# EAGLE library part LM6152 (library QuantumOptics)
LM6152, National Semi opamp, dual, single supply, RRIO, middle of the road.
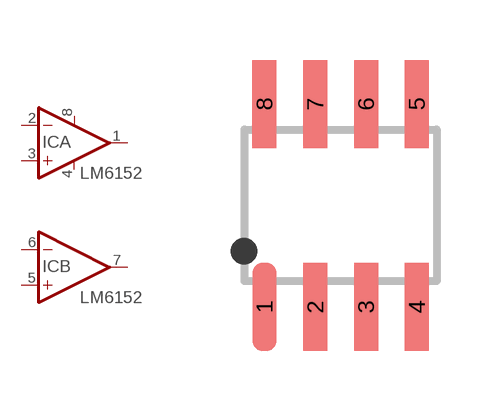
[diagram p21: symbol with the pads of SOIC-8; footprint SOIC-8]

Designator prefix IC; gates A=OPAMP B=OPAMP G$1=PWR+-

## LM6152ACM  [SOIC-8]
1  A:OUT  out
2  A:-IN  in
3  A:+IN  in
4  G$1:V-
5  B:+IN  in
6  B:-IN  in
7  B:OUT  out
8  G$1:V+

## Footprint SOIC-8 (pad centres in mm)
SOIC-8 (a.k.a. SO-8), pads on 0.050" x 0.200" c-c spacing.
smd 0.6 x 2.2: 1 -1.27,-2.54; 2 0,-2.54; 3 1.27,-2.54; 4 2.54,-2.54; 5 2.54,2.54; 6 1.27,2.54; 7 0,2.54; 8 -1.27,2.54